# EAGLE library part TEENSY_4.0_SIMPLE (library Microcontroller)
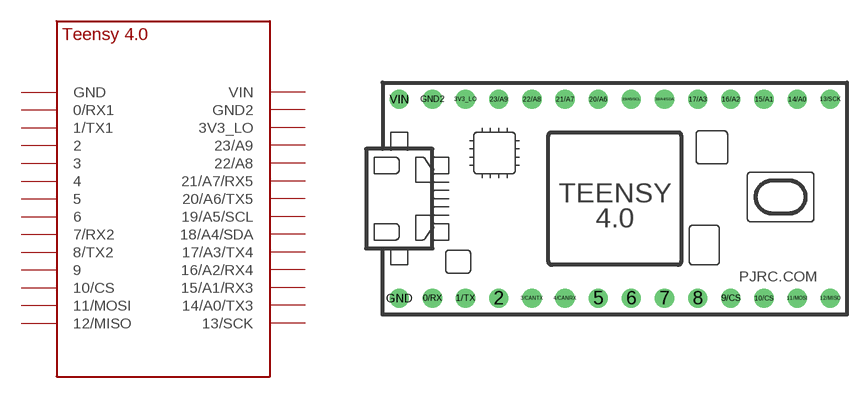
[diagram p1: symbol with the pads of TEENSY_4.0_SIMPLE; footprint TEENSY_4.0_SIMPLE]

Designator prefix -

## TEENSY_4.0_SIMPLE  [TEENSY_4.0_SIMPLE]
0/RX  0/RX1
1/TX  1/TX1
2  2
3/CANTX  3
3V3_LO  3V3_LO
4/CANRX  4
5  5
6  6
7  7/RX2
8  8/TX2
9/CS  9
10/CS  10/CS
11/MOSI  11/MOSI
12/MISO  12/MISO
13/SCK  13/SCK
14/A0  14/A0/TX3
15/A1  15/A1/RX3
16/A2  16/A2/RX4
17/A3  17/A3/TX4
18/A4/SDA  18/A4/SDA
19/A5/SCL  19/A5/SCL
20/A6  20/A6/TX5
21/A7  21/A7/RX5
22/A8  22/A8
23/A9  23/A9
GND  GND
GND2  GND2
VIN  VIN

## Footprint TEENSY_4.0_SIMPLE (pad centres in mm)
drill 0.965: 0/RX -13.97,-7.62; 1/TX -11.43,-7.62; 2 -8.89,-7.62; 3/CANTX -6.35,-7.62; 3V3_LO -11.43,7.62; 4/CANRX -3.81,-7.62; 5 -1.27,-7.62; 6 1.27,-7.62; 7 3.81,-7.62; 8 6.35,-7.62; 9/CS 8.89,-7.62; 10/CS 11.43,-7.62; 11/MOSI 13.97,-7.62; 12/MISO 16.51,-7.62; 13/SCK 16.51,7.62; 14/A0 13.97,7.62; 15/A1 11.43,7.62; 16/A2 8.89,7.62; 17/A3 6.35,7.62; 18/A4/SDA 3.81,7.62; 19/A5/SCL 1.27,7.62; 20/A6 -1.27,7.62; 21/A7 -3.81,7.62; 22/A8 -6.35,7.62; 23/A9 -8.89,7.62; GND -16.51,-7.62; GND2 -13.97,7.62; VIN -16.51,7.62